# EAGLE library part LTC2057 (library linear)
Linear LTC2057 High voltage, low noise, zero-drift operational amplifier Datasheet <https://cds.linear.com/docs/en/datasheet/2057f.pdf>
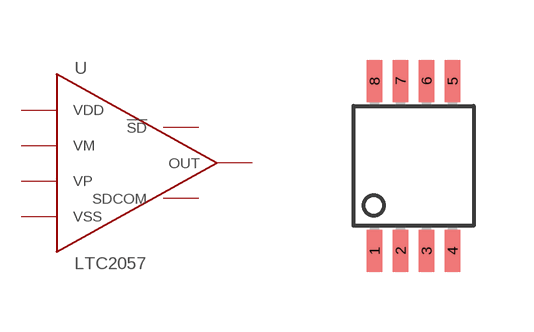
[diagram p322: symbol with the pads of MICRO8; footprint MICRO8]

Designator prefix -

## LTC2057MS8  [MICRO8]
1  !SD!
2  VM
3  VP
4  VSS
6  OUT
7  VDD
8  SDCOM

## Footprint MICRO8 (pad centres in mm)
Micro8 CASE 846A-02 Source: http://www.onsemi.com/pub/Collateral/MC34164-D.PDF
smd 0.38 x 1.05: 1 -0.975,-2.125; 2 -0.325,-2.125; 3 0.325,-2.125; 4 0.975,-2.125; 5 0.975,2.125; 6 0.325,2.125; 7 -0.325,2.125; 8 -0.975,2.125